# Altium schematic symbol library USB3.2_Hub_4Port.SCHLIB: 43 symbols
Pins are listed as number, name and electrical type; pins without a type are passive.

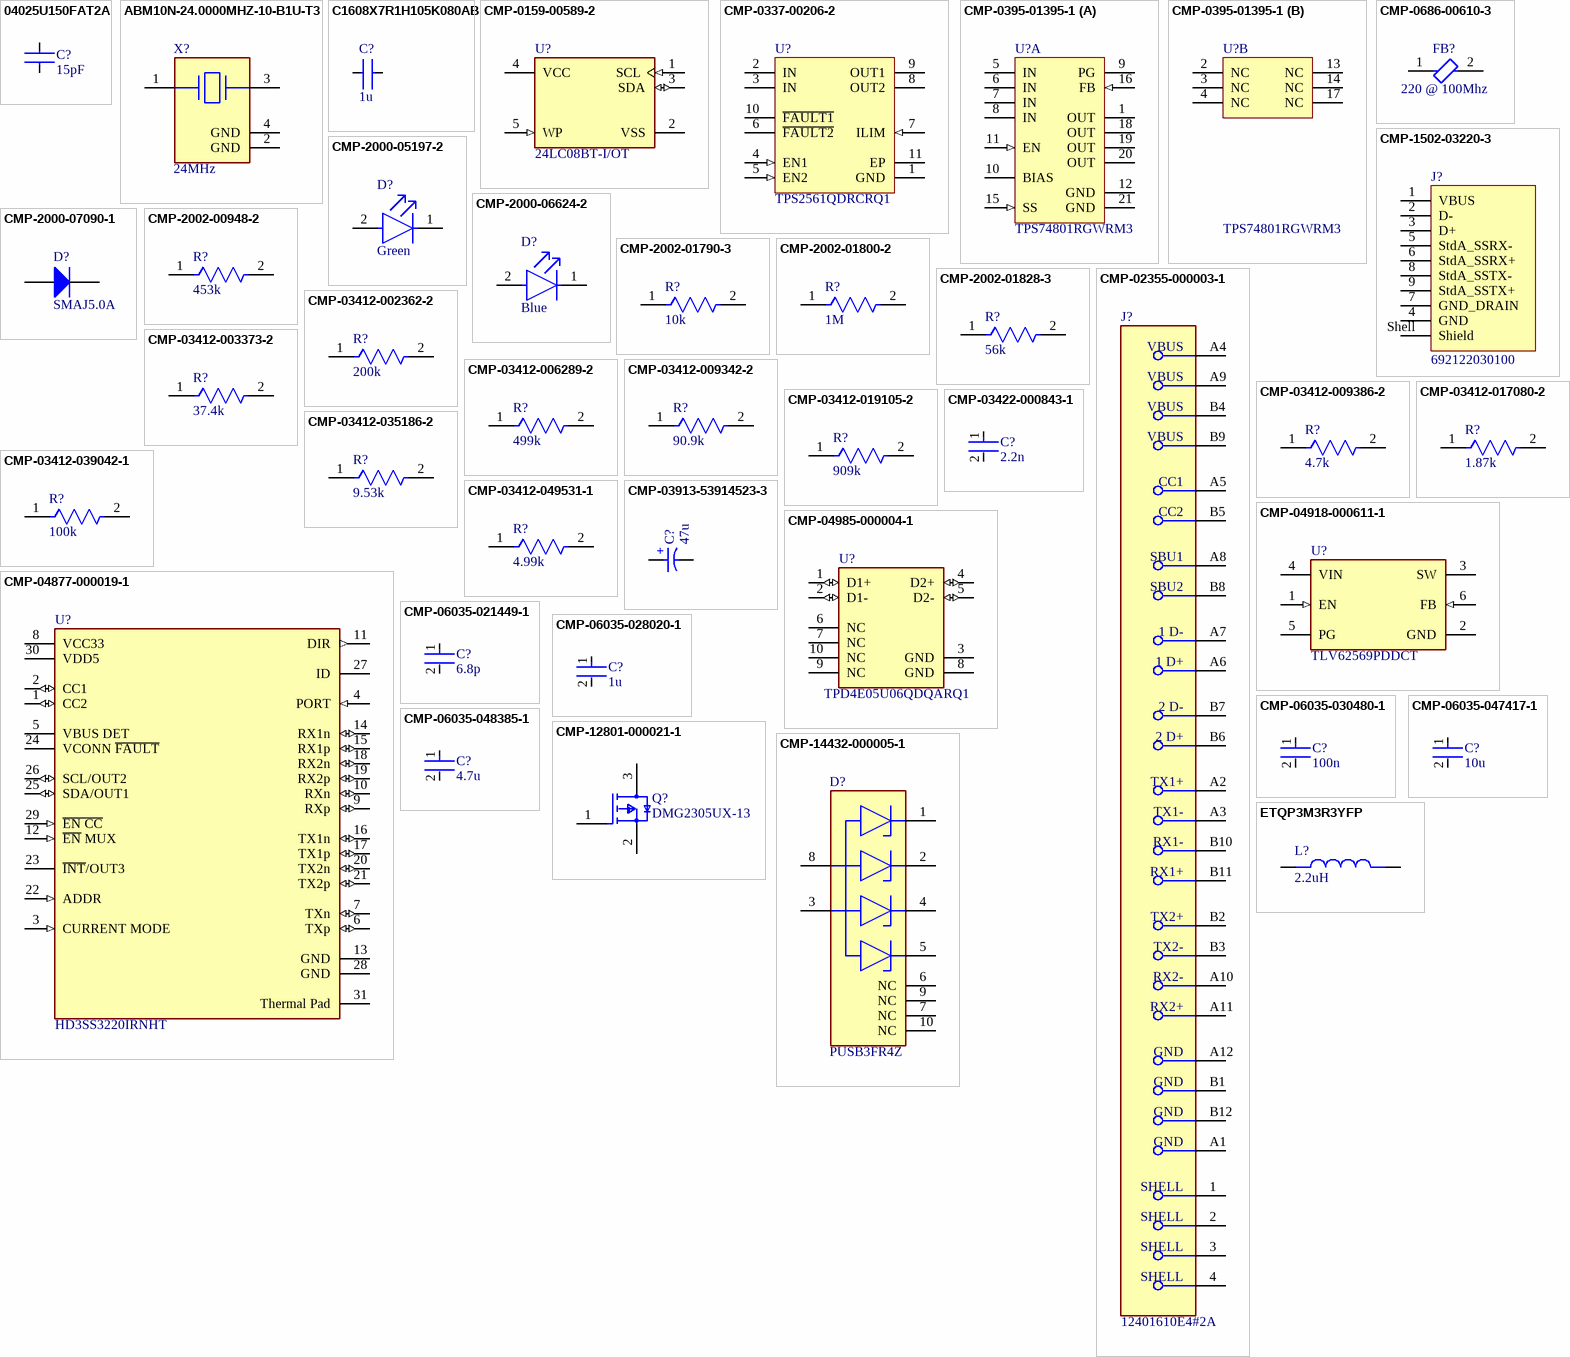
[diagram p0: symbols 04025U150FAT2A to ETQP3M3R3YFP]

## 04025U150FAT2A
designator C?, comment 15pF
AVX - 04025U150FAT2A - CAP, MLCC, C0G / NP0, 15PF, 50V, 0402; Manufacturer_Name: Kyocera AVX; Geometry.Height: 0.56mm; Mouser Part Number: 581-04025U150FAT2A; Mouser Price/Stock: https://www.mouser.com/Search/Refine.aspx?Keyword=581-04025U150FAT2A; Manufacturer_Part_Number: 04025U150FAT2A; Datasheet Link: https://componentsearchengine.com/Datasheets/1/04025U150FAT2A.pdf
footprint CAPC1005X56N
pins: 1, 2

## ABM10N-24.0000MHZ-10-B1U-T3
designator X?, comment 24MHz
24 MHz +/-10ppm Crystal 10pF 50 Ohms 4-SMD, No Lead , -20C ~ 70C; Manufacturer_Name: ABRACON; Manufacturer_Part_Number: ABM10N-24.0000MHZ-10-B1U-T3; Geometry.Height: 0.65mm; Mouser Part Number: *; Mouser Price/Stock: *; Datasheet Link: https://abracon.com/datasheets/ABM10N.pdf
footprint ABM10N240000MHZ10B1UT3
pins: 1, 2 GND, 3, 4 GND

## C1608X7R1H105K080AB
designator C?, comment 1u
The superior mechanical strength and reliability due to the monolithic structure.  Low ESR, ESL and excellent frequency characteristics allow for a circuit design that closely conforms to theoretical values.  Low self-heating and high ripple resistance due to low ESR.  No polarity; Manufacturer_Name: TDK; Manufacturer_Part_Number: C1608X7R1H105K080AB; Geometry.Height: 0.9mm; Mouser Part Number: 810-C1608X7R1H105K08; Mouser Price/Stock: https://www.mouser.co.uk/ProductDetail/TDK/C1608X7R1H105K080AB?qs=efUn273yAhdzCWVW9RXgig%3D%3D; Datasheet Link: https://media.digikey.com/pdf/Data%20Sheets/TDK%20PDFs/mlcc_commercial_general_Rev2018.pdf
footprint CAPC1608X90N
pins: 1, 2

## CMP-0159-00589-2
designator U?, comment 24LC08BT-I/OT
IC EEPROM 8K I2C 400KHZ SOT23-5; Manufacturer: Microchip; Automotive Grade: Grade 3; Import Ts: 1521846298; Interface: I2C,2-Wire; Memory Size: 8Kbits; Access Time: 900ns; Min Supply Voltage: 2.5V; Nominal Supply Current: 1-3mA; Ciiva Ids: 971476; Max Supply Voltage: 5.5V; ComponentLink2Description: Datasheet; Category: IC; Frequency: 400kHz; Digikey Description: IC EEPROM 8K I2C 400KHZ SOT23-5; Ambient Temperature Range High: +85°C; RoHS: TRUE; Ambient Temperature Range Low: -40°C; Temperature Range High: +85°C; Device Class L3: EEPROM; Device Class L2: Memory; Memory Type: EEPROM; Temperature: -40°C to +85°C; Ipc Land Pattern Name: SOT95P280X118-5; Release Date: 1302228452; Manufacturer Part Number: 24LC08BT-I/OT; Automotive: Yes; Mouser Description: EEPROM 1kx8 - 2.5V; Lead Free: Yes; Height: 1.45mm; Octopart: https://octopart.com/24lc08bt-i%2Fot-microchip-93286; Device Class L1: Integrated Circuits (ICs); Package: C04-091-OT; ComponentLink2URL: http://ww1.microchip.com/downloads/en/DeviceDoc/20001710L.pdf; Temperature Range Low: -40°C
footprint FP-C04-091-OT-MFG
footprint FP-C04-091-OT-IPC_C
footprint FP-C04-091-OT-IPC_B
footprint FP-C04-091-OT-IPC_A
pins: 1 SCL (in), 2 VSS (power), 3 SDA (io), 4 VCC (power), 5 WP (in)

## CMP-0337-00206-2
designator U?, comment TPS2561QDRCRQ1
Automotive Catalog Dual Channel Precision Adjustable Current-Limited Power Switch, 0.25 to 2.5 A Current Limit, -40 to 125 degC, 10-pin SON (DRC), Green (RoHS & no Sb/Br); Manufacturer: Texas Instruments; rDS(on) per FET(Typ)(mOhms): 45; Current Limit(A): 0.25 - 2.5; Current Limit Accuracy @ 1A: +/-7.5% (2590mA min / 3005mA max); Vin(Min)(V): 2.5; Number of Switches: 2; Vin(Max)(V): 6.5; Current Limit Topology: Constant-Current; Enable: Active High; DatasheetVersion: SLVSB51A; Eco-Plan: Green (RoHS & no Sb/Br); PartNumber: TPS2561QDRCRQ1; PackageReference: DRC0010A; Rating: Automotive; PackageDescription: 10-Pin Plastic Small Outline No-Lead, 3 x 3 x 1 mm Body, 0.5 mm Pitch, Exposed Pad; Continuous Current(Max)(A): 2.5; Mounting Technology: Surface Mount; PackageVersion: revL, Sep-2011; ComponentLink1Description: Datasheet; ComponentLink1URL: http://www.ti.com/general/docs/lit/getliterature.tsp?genericPartNumber=TPS2561-Q1&fileType=pdf
footprint DRC0010A_V (SON, 10-Leads, Body 3x3mm, Pitch 0.5mm, Thermal Pad 2.4x1.65mm, TI Recommended)
pins: 1 GND (power) "Ground connection; connect externally to PowerPAD", 2 IN (power) "Input voltage; connect a 0.1 uF or greater ceramic capacitor from IN to GND as close to the IC as possible.", 3 IN (power) "Input voltage; connect a 0.1 uF or greater ceramic capacitor from IN to GND as close to the IC as possible.", 4 EN1 (in) "Enable input, logic high turns on channel one power switch", 5 EN2 (in) "Enable input, logic high turns on channel two power switch", 6 ~{FAULT2} (hiz) "Active-low open-drain output, asserted during overcurrent or overtemperature condition on channel two", 7 ILIM (in) "External resistor used to set current-limit threshold; recommended 20 k ohm =< RILIM =<187 k ohm.", 8 OUT2 (power) "Power-switch output for channel two", 9 OUT1 (power) "Power-switch output for channel one", 10 ~{FAULT1} (hiz) "Active-low open-drain output, asserted during overcurrent or overtemperature condition on channel one.", 11 EP (power) "Internally connected to GND; used to heat-sink the part to the circuit board traces.Connect PowerPAD to GND pin externally."

## CMP-0395-01395-1
designator U?, comment TPS74801RGWRM3
Single Output LDO, 1.5 A, Adjustable 0.8 to 3.6 V Output, 0.8 to 5.5 V Input, with Programmable Soft Start, 20-pin VQFN (RGW), -40 to 125 degC, Green (RoHS & no Sb/Br); Manufacturer: Texas Instruments; PartNumber: TPS74801RGWTG4; Accuracy(%): 2; Vin(Min)(V): 0.8; SubFamily: Single Channel LDO; Iout(Max)(A): 1.5; Rating: Catalog; Power Good: TRUE; Vout Adj(Max)(V): 3.6; Vdo(Typ)(mV): 60; Vin(Max)(V): 5.5; Iq(Typ)(mA): 1; PackageReference: RGW20-3150X3150TP; ComponentLink2Description: Datasheet; PackageDescription: 20-Pin Plastic Quad Flat No-Pin, 5 x 5 mm Body, 0.65 mm Pitch, 3.15 x 3.15 mm Exposed Pad; ComponentLink1URL: http://www.ti.com/; DatasheetVersion: SBVS074J; Mounting Technology: Surface Mount; ComponentLink3Description: Package Specification; Vout Adj(Min)(V): 0.8; Code_JEDEC: MO-220; ComponentLink3URL: http://www.ti.com/litv/pdf/mpqf122b; Eco-Plan: Green (RoHS & no Sb/Br); ComponentLink4Description: URL Link1; ComponentLink4URL: Samples URL:http://www.ti.com/product/tps74801#samples; ComponentLink2URL: http://www.ti.com/general/docs/lit/getliterature.tsp?genericPartNumber=TPS74801&fileType=pdf; ComponentLink1Description: Manufacturer URL
footprint TI-RGW20-3150X3150TP_V (QFN, 20-Leads, Body 5x5mm, Pitch 0.65mm, Thermal Pad 3.15x3.15mm)
part A pins: 1 OUT (power) "Regulated output voltage. A small capacitor (total typical capacitance >= 2.2uF, ceramic) is needed from this pin to ground to assure stability.", 5 IN (power) "Input to the device.", 6 IN (power) "Input to the device.", 7 IN (power) "Input to the device.", 8 IN (power) "Input to the device.", 9 PG (hiz) "Power Good pin. An open-drain, active-high output that indicates the status of VOUT. When VOUT exceeds the PG trip threshold, the PG pin goes into a high-impedance state. When VOUT is below this threshold the pin is driven (See Datasheet)", 10 BIAS (power) "Bias input voltage for error amplifier, reference, and internal control circuits.", 11 EN (in) "Enable pin. Driving this pin high enables the regulator. Driving this pin low puts the regulator into shutdown mode. This pin must not be left unconnected.", 12 GND (power), 15 SS (in) "Soft-Start pin. A capacitor connected on this pin to ground sets the start-up time. If this pin is left unconnected, the regulator output soft-start ramp time is typically 200us.", 16 FB (in) "Feedback pin. The feedback connection to the center tap of an external resistor divider network that sets the output voltage. This pin must not be left floating.", 18 OUT (power) "Regulated output voltage. A small capacitor (total typical capacitance >= 2.2uF, ceramic) is needed from this pin to ground to assure stability.", 19 OUT (power) "Regulated output voltage. A small capacitor (total typical capacitance >= 2.2uF, ceramic) is needed from this pin to ground to assure stability.", 20 OUT (power) "Regulated output voltage. A small capacitor (total typical capacitance >= 2.2uF, ceramic) is needed from this pin to ground to assure stability.", 21 GND (power) "Should be soldered to the ground plane for increased thermal performance."
part B pins: 2 NC "No connection. This pin can be left floating or connected to GND to allow better thermal contact to the top-side plane.", 3 NC "No connection. This pin can be left floating or connected to GND to allow better thermal contact to the top-side plane.", 4 NC "No connection. This pin can be left floating or connected to GND to allow better thermal contact to the top-side plane.", 13 NC "No connection. This pin can be left floating or connected to GND to allow better thermal contact to the top-side plane.", 14 NC "No connection. This pin can be left floating or connected to GND to allow better thermal contact to the top-side plane.", 17 NC "No connection. This pin can be left floating or connected to GND to allow better thermal contact to the top-side plane."

## CMP-0686-00610-3
designator FB?, comment 220 @ 100Mhz
Chip Ferrite Bead, 0805, 220Ω @ 100MHz, 0.045Ω, 25%, 2A; Number of Circuits: 1; Shielding: Unshielded; DC Resistance (DCR): 45mR; Impedance: 220R; Radiation Hardening: No; Material: Ferrite; Frequency: 100MHz; Width: 1.25mm; DC Current: 2A; Max DC Current: 2A; Number of Lines: 1; Package Quantity: 1; Case Code (Metric): 2012; Current Rating: 2A; Case/Package: 0805; Current: 2A; Military Standard: Not; Core Material: Ferrite; Depth: 1.25mm; Contact Plating: Tin; DC Resistance-Max: 45mR; Max Operating Temperature: 125°C; Length: 2mm; Max Current Rating: 2A; REACH SVHC: No SVHC; Termination: SMD/SMT; Min Operating Temperature: -55°C; Series: BLM21P; Test Frequency: 100MHz; Tolerance: 25%; Number of Pins: 2; RoHS Compliant: Yes; Height: 0.85mm; Packaging: Tape and Reel; Lead Free: Lead Free; Case Code (Imperial): 0805
footprint FP-BLM21-0_2-t0_85-e0_5-IPC_B
footprint FP-BLM21-0_2-t0_85-e0_5-MFG
footprint FP-BLM21-0_2-t0_85-e0_5-IPC_A
footprint FP-BLM21-0_2-t0_85-e0_5-IPC_C
pins: 1, 2

## CMP-1502-03220-3
designator J?, comment 692122030100
Conn USB 3.0 Type A RCP 9 POS 1.25mm Solder RA SMD 9 Terminal 1 Port T/R; Current Rating: 250mA; Insulation Resistance: 100MΩ; Number of Contacts: 9; Number of Ports: 1; Voltage Rating (AC): 30V; USB Standard: USB 3.0; Gender: Receptacle; Contact Resistance: 50mΩ; RoHS: Compliant; Min Operating Temperature: -20°C; Packaging: Tape and Reel; Width: 16.66mm; Contact Plating: Gold; Color: Blue; Height: 8.01mm; Mount: Horizontal, Surface Mount, Through Hole; Voltage Rating: 30V; Contact Material: Gold, Nickel; Connector Type: USB; REACH SVHC: Unknown; Number of Pins: 9; Max Operating Temperature: 85°C; Operating Supply Voltage: 30V; Lead Free: Lead Free; Termination: SMD/SMT; Orientation: Horizontal; Flammability Rating: UL94 V-0; Features: Shielded; Length: 15.1mm
footprint 692122030100
pins: 1 VBUS, 2 D-, 3 D+, 4 GND, 5 StdA_SSRX-, 6 StdA_SSRX+, 7 GND_DRAIN, 8 StdA_SSTX-, 9 StdA_SSTX+, Shell Shield

## CMP-2000-05197-2
designator D?, comment Green
LED GREEN CLEAR CHIP SMD LTST-C193TGKT-5A; Test Current: 20mA; Power Rating: 75mW; Forward Voltage: 2V; Wavelength: 574nm; Number of LEDs: 1; Reverse Voltage: 5V; Dominant Wavelength: 571nm; Lens Style: Diffused; Luminous Intensity: 35mcd; Forward Current: 30mA; Viewing Angle: 130°; Lens Color: Colorless; Width: 0.8mm; Case Code (Imperial): 0603; Case Code (Metric): 1608; Number of Pins: 2; Radiation Hardening: No; Package Quantity: 1; Lead Free: Lead Free; Lens Transparency: Clear; Depth: 0.8mm; Power Dissipation: 75mW; Mount: Surface Mount; Max Operating Temperature: 85°C; Case/Package: 0603; Height: 0.8mm; Illumination Color: Green; Color: Green; Length: 1.6mm; Packaging: Tape and Reel; Number of Elements: 1; Min Operating Temperature: -55°C; Manufacturer Part Number: LTST-C193TGKT-5A
footprint FP-LTST-C190KGKT-MFG
pins: 1 C, 2 A

## CMP-2000-06624-2
designator D?, comment Blue
LED BLUE CLEAR CHIP SMD LTST-C193TBKT-5A; Number of Elements: 1; Forward Voltage: 2.8V; Forward Current: 20mA; Test Current: 5mA; Lens Color: Colorless; Dominant Wavelength: 475nm; Reverse Voltage: 5V; Viewing Angle: 130°; Lens Style: Diffused; Luminous Intensity: 15mcd; Power Dissipation: 76mW; Max Operating Temperature: 80°C; Length: 1.6mm; Number of LEDs: 1; Case/Package: 0603; Case Code (Metric): 1608; Number of Pins: 2; Radiation Hardening: No; Min Operating Temperature: -20°C; Width: 0.8mm; Packaging: Tape and Reel; Package Quantity: 1; Lead Free: Lead Free; Lens Transparency: Clear; Illumination Color: Blue; Color: Blue; RoHS Compliant: Yes; Mount: Surface Mount; Depth: 0.8mm; Case Code (Imperial): 0603; Height: 0.35mm
footprint FP-LTST-C193TBKT-5A-MFG
pins: 1 C, 2 A

## CMP-2000-07090-1
designator D?, comment SMAJ5.0A
SMAJ Transient Voltage Suppressor Diode Series, 3.5 V, -55 to 150 degC, 2-Pin SMA, RoHS, Tape and Reel; Manufacturer: Bourns; EDA / CAD Models: DownloadfromAcceleratedDesigns; Unidirectional Channels: 1; Voltage - Breakdown (Min): 6.4V; Voltage - Reverse Standoff (Typ): 5V; Voltage - Clamping (Max) @ Ipp: 9.2V; Other Names: SMAJ5.0ABDKR; Type: Zener; Catalog Drawings: SMAJSeriesFootprintSMAJ,SMBJSeries; Featured Product: SMAJ/SMBJ/SMCJ/SMLJDiscreteTVSDiodes; Power - Peak Pulse: 400W; Current - Peak Pulse (10/1000µs): 43.5A; Power Line Protection: No; Online Catalog: SMAJSeries; Supplier Device Package: SMA(DO-214AC); Operating Temperature: -55°C~150°C(TJ); Package Description: 2-Pin Surface Mount Device, Body 4.315 x 2.605 mm; Datasheet URL: https://datasheet.ciiva.com/25624/0900766b8112213b-25624680.pdf; Manufacturer URL: http://www.bourns.com/; Datasheet Version: 08/2012; Series: SMAJ; Family: TVS-Diodes; Bidirectional Channels: -; Applications: GeneralPurpose; Package Reference: SMA-2; Standard Package: 1; Package / Case: DO-214AC,SMA; Category: CircuitProtection; RoHS Information: SMAJSeriesMaterialDeclaration; Mounting Technology: SurfaceMount; Capacitance @ Frequency: -; Packaging: Digi-Reel®; Mounting Type: SurfaceMount
footprint BOUR-SMA-2_V (SMA, 2-Leads, Body 4.57x2.92mm)
pins: 1 A, 2 K

## CMP-2002-00948-2
designator R?, comment 453k
NexarPartId: 55421189; Power Rating: 100mW; Resistance: 453kΩ; Temperature Coefficient: 100ppm/°C; Tolerance: 1%; Voltage Rating (DC): 50V; Case Code (Metric): 1005; RoHS: Compliant; Length: 1mm; Case Code (Imperial): 0402; Depth: 500µm; Lead Free: Lead Free; Mount: Surface Mount; Termination: SMD/SMT; Schedule B: 8533210045, 8533210045; Max Operating Temperature: 155°C; Max Power Dissipation: 100mW; Width: 508µm; Case/Package: 0402; Military Standard: Not; Number of Terminations: 2; Contact Plating: Tin; Lifecycle Status: Production; Composition: Thick Film; Min Operating Temperature: -55°C; Height: 350µm; Packaging: Cut Tape; Voltage Rating: 50V; REACH SVHC: Yes
footprint FP-ERJ2RK-MFG (Res Thick Film 0402 18K Ohm 1% 0.1W(1/10W) +/-100ppm/C Molded SMD Automotive Punched T/R)
footprint FP-ERJ2RK-IPC_A (Res Thick Film 0402 18K Ohm 1% 0.1W(1/10W) +/-100ppm/C Molded SMD Automotive Punched T/R)
footprint FP-ERJ2RK-IPC_B (Res Thick Film 0402 18K Ohm 1% 0.1W(1/10W) +/-100ppm/C Molded SMD Automotive Punched T/R)
footprint FP-ERJ2RK-IPC_C (Res Thick Film 0402 18K Ohm 1% 0.1W(1/10W) +/-100ppm/C Molded SMD Automotive Punched T/R)
pins: 1, 2

## CMP-2002-01790-3
designator R?, comment 10k
RES 10kΩ ±1% 0.063W 0402; Power Rating: 62.5mW; Voltage Rating: 50V; Temperature Coefficient: 100ppm/°C; Resistance: 10kR; Max Power Dissipation: 63mW; Tolerance: 1%; Military Standard: Not; Construction: Rectangular; Termination: SMD/SMT; Max Operating Temperature: 155°C; Min Operating Temperature: -55°C; Height: 0.015inch; Lead Free: Lead Free; Width: 0.02inch; Case/Package: 0402; Resistor Type: Thick Film; Series: AC; Features: Moisture Resistant; RoHS Compliant: Yes; Number of Terminations: 2; Case Code (Metric): 1005; Length: 0.039inch; Depth: 0.5mm; Size Code: 0402; Packaging: Tape and Reel; Case Code (Imperial): 0402
footprint FP-AC0402-MFG
footprint FP-AC0402-IPC_B
footprint FP-AC0402-IPC_A
footprint FP-AC0402-IPC_C
pins: 1, 2

## CMP-2002-01800-2
designator R?, comment 1M
RES 1MΩ ±1% 0.063W 0402; Power Rating: 62.5mW; Max Power Dissipation: 63mW; Temperature Coefficient: 100ppm/°C; Resistance: 1MR; Voltage Rating: 50V; Packaging: Tape and Reel; Lead Free: Lead Free; Depth: 0.5mm; Series: AC; Length: 0.039inch; Resistor Type: Thick Film; Termination: SMD/SMT; Military Standard: Not; Case/Package: 0402; Min Operating Temperature: -55°C; Tolerance: 1%; Features: Moisture Resistant; Size Code: 0402; Case Code (Imperial): 0402; Number of Terminations: 2; Width: 0.5mm; Construction: Rectangular; Height: 0.015inch; RoHS Compliant: Yes; Case Code (Metric): 1005; Max Operating Temperature: 155°C
footprint FP-AC0402-IPC_A
footprint FP-AC0402-MFG
footprint FP-AC0402-IPC_B
footprint FP-AC0402-IPC_C
pins: 1, 2

## CMP-2002-01828-3
designator R?, comment 56k
RES 56kΩ ±1% 0.063W 0402; Max Power Dissipation: 63mW; Temperature Coefficient: 100ppm/°C; Resistance: 56kR; Lead Free: Lead Free; Max Operating Temperature: 155°C; Series: AC; Case Code (Imperial): 0402; RoHS Compliant: Yes; Case/Package: 0402; Power Rating: 63mW; Height: 0.015inch; Tolerance: 1%; Features: Moisture Resistant; Size Code: 0402; Min Operating Temperature: -55°C; Resistor Type: Thick Film; Case Code (Metric): 1005; Length: 0.039inch; Number of Terminations: 2; Width: 0.02inch; Packaging: Cut Tape
footprint FP-AC0402-IPC_A
footprint FP-AC0402-IPC_C
footprint FP-AC0402-MFG
footprint FP-AC0402-IPC_B
pins: 1, 2

## CMP-02355-000003-1
designator J?, comment 12401610E4#2A
CONN RCP USB3.1 TYPEC 24P SMD RA; Connector Type: USB; Number of Contacts: 24; Gender: Receptacle; Packaging: Cut Tape; Mount: Surface Mount; Number of Pins: 24
footprint FP-12401610E4#2A-MFG
pins: 1 SHELL (power), 2 SHELL (power), 3 SHELL (power), 4 SHELL (power), A1 GND (power), A2 TX1+, A3 TX1-, A4 VBUS (power), A5 CC1, A6 1 D+, A7 1 D-, A8 SBU1, A9 VBUS (power), A10 RX2-, A11 RX2+, A12 GND (power), B1 GND (power), B2 TX2+, B3 TX2-, B4 VBUS (power), B5 CC2, B6 2 D+, B7 2 D-, B8 SBU2, B9 VBUS (power), B10 RX1-, B11 RX1+, B12 GND (power)

## CMP-03412-002362-2
designator R?, comment 200k
RES 200kΩ ±1% 0.063W 0402; Temperature Coefficient: 100ppm/°C; Voltage Rating: 50V; Max Power Dissipation: 63mW; Power Rating: 62.5mW; Resistance: 200kR; RoHS Compliant: Yes; Series: AC; Height: 0.015inch; Termination: SMD/SMT; Case Code (Imperial): 0402; Min Operating Temperature: -55°C; Weight: 2.3E-05oz; Case Code (Metric): 1005; Case/Package: 0402; Max Operating Temperature: 155°C; Width: 0.5mm; Size Code: 0402; Features: Moisture Resistant; Number of Terminations: 2; Tolerance: 1%; Packaging: Tape and Reel; Lead Free: Lead Free; Resistor Type: Thick Film; Length: 0.039inch
footprint FP-AC0402-MFG
footprint FP-AC0402-IPC_C
footprint FP-AC0402-IPC_A
footprint FP-AC0402-IPC_B
pins: 1, 2

## CMP-03412-003373-2
designator R?, comment 37.4k
RES 37.4kΩ ±1% 0.063W 0402; Temperature Coefficient: 100ppm/°C; Voltage Rating: 50V; Resistance: 37.4kR; Max Power Dissipation: 63mW; Power Rating: 62.5mW; Width: 0.5mm; Tolerance: 1%; Length: 0.039inch; Number of Terminations: 2; Features: Moisture Resistant; Min Operating Temperature: -55°C; Case Code (Metric): 1005; Series: AC; RoHS Compliant: Yes; Resistor Type: Thick Film; Termination: SMD/SMT; Case/Package: 0402; Packaging: Tape and Reel; Case Code (Imperial): 0402; Height: 0.015inch; Max Operating Temperature: 155°C
footprint FP-AC0402-IPC_B
footprint FP-AC0402-IPC_C
footprint FP-AC0402-IPC_A
footprint FP-AC0402-MFG
pins: 1, 2

## CMP-03412-006289-2
designator R?, comment 499k
RES 499kΩ ±1% 0.063W 0402; Resistance: 499kR; Max Power Dissipation: 63mW; Temperature Coefficient: 100ppm/°C; Case/Package: 0402; Tolerance: 1%; Series: AC; Number of Terminations: 2; Features: Moisture Resistant; Case Code (Imperial): 0402; Packaging: Tape and Reel; Resistor Type: Thick Film; Min Operating Temperature: -55°C; RoHS Compliant: Yes; Ratings: AEC-Q200; Width: 0.02inch; Length: 0.039inch; Height: 0.015inch; Max Operating Temperature: 155°C; Case Code (Metric): 1005
footprint FP-AC0402-IPC_C
footprint FP-AC0402-IPC_B
footprint FP-AC0402-IPC_A
footprint FP-AC0402-MFG
pins: 1, 2

## CMP-03412-009342-2
designator R?, comment 90.9k
RES 90.9kΩ ±1% 0.063W 0402; Voltage Rating: 50V; Resistance: 90.9kR; Temperature Coefficient: 100ppm/°C; Max Power Dissipation: 63mW; Power Rating: 62.5mW; Resistor Type: Thick Film; Length: 0.039inch; RoHS Compliant: Yes; Features: Moisture Resistant; Height: 0.015inch; Case Code (Imperial): 0402; Tolerance: 1%; Min Operating Temperature: -55°C; Case/Package: 0402; Width: 0.5mm; Series: AC; Termination: SMD/SMT; Number of Terminations: 2; Max Operating Temperature: 155°C; Case Code (Metric): 1005; Packaging: Tape and Reel
footprint FP-AC0402-MFG
footprint FP-AC0402-IPC_B
footprint FP-AC0402-IPC_A
footprint FP-AC0402-IPC_C
pins: 1, 2

## CMP-03412-009386-2
designator R?, comment 4.7k
RES 4.7kΩ ±1% 0.063W 0402
footprint FP-AC0402-MFG
footprint FP-AC0402-IPC_B
footprint FP-AC0402-IPC_A
footprint FP-AC0402-IPC_C
pins: 1, 2

## CMP-03412-017080-2
designator R?, comment 1.87k
RES 1.87kΩ ±1% 0.063W 0402; Temperature Coefficient: 100ppm/°C; Resistance: 1.87kR; Max Power Dissipation: 63mW; Features: Moisture Resistant; Width: 0.02inch; Packaging: Tape and Reel; Series: AC; Height: 0.015inch; Min Operating Temperature: -55°C; Number of Terminations: 2; Tolerance: 1%; Length: 0.039inch; Max Operating Temperature: 155°C; Case/Package: 0402; RoHS Compliant: Yes; Resistor Type: Thick Film
footprint FP-AC0402-IPC_A
footprint FP-AC0402-IPC_C
footprint FP-AC0402-IPC_B
footprint FP-AC0402-MFG
pins: 1, 2

## CMP-03412-019105-2
designator R?, comment 909k
RES 909kΩ ±1% 0.063W 0402; Power Rating: 62.5mW; Voltage Rating: 50V; Resistance: 909kR; Temperature Coefficient: 100ppm/°C; Max Power Dissipation: 63mW; Number of Terminations: 2; Packaging: Tape and Reel; Height: 0.015inch; Max Operating Temperature: 155°C; Series: AC; Resistor Type: Thick Film; Features: Moisture Resistant; Width: 0.5mm; RoHS Compliant: Yes; Length: 0.039inch; Case/Package: 0402; Min Operating Temperature: -55°C; Tolerance: 1%; Termination: SMD/SMT; Case Code (Imperial): 0402; Case Code (Metric): 1005
footprint FP-AC0402-IPC_A
footprint FP-AC0402-IPC_C
footprint FP-AC0402-MFG
footprint FP-AC0402-IPC_B
pins: 1, 2

## CMP-03412-035186-2
designator R?, comment 9.53k
RES 9.53kΩ ±1% 0.063W 0402; Temperature Coefficient: 100ppm/°C; Max Power Dissipation: 63mW; Resistance: 9.53kR; Number of Terminations: 2; Case/Package: 0402; Width: 0.02inch; Length: 0.039inch; Min Operating Temperature: -55°C; RoHS Compliant: Yes; Max Operating Temperature: 155°C; Series: AC; Resistor Type: Thick Film; Height: 0.015inch; Tolerance: 1%; Features: Moisture Resistant; Packaging: Tape and Reel
footprint FP-AC0402-IPC_C
footprint FP-AC0402-IPC_A
footprint FP-AC0402-MFG
footprint FP-AC0402-IPC_B
pins: 1, 2

## CMP-03412-039042-1
designator R?, comment 100k
RES 100kΩ ±1% 0.125W 0402
footprint FP-AC0402-MFG
footprint FP-AC0402-IPC_A
footprint FP-AC0402-IPC_B
footprint FP-AC0402-IPC_C
pins: 1, 2

## CMP-03412-049531-1
designator R?, comment 4.99k
RES 4.99kΩ ±1% 0.125W 0402; RoHS Compliant: Yes
footprint FP-AC0402-IPC_A
footprint FP-AC0402-MFG
footprint FP-AC0402-IPC_B
footprint FP-AC0402-IPC_C
pins: 1, 2

## CMP-03422-000843-1
designator C?, comment 2.2n
CAP CER 2200PF 50V X7R 0402; Manufacturer: Yageo; Manufacturer Part Number: AC0402KRX7R9BB222; Value: 2.2 nF; Material: Ceramic; Temperature Coefficient: ±15%; Automotive Grade: Grade 1; Tolerance: 0.1; Temperature: -55°C to +125°C; Automotive: Yes; Device Class L1: Passive Components; Device Class L2: Capacitors; Package: AC0402-0.5; RoHS: TRUE; Temperature Range Low: -55°C; ComponentLink2Description: Datasheet; Category: Cap; Mouser Description: Cap Ceramic 0.0022uF 50V X7R 10% Pad SMD 0402 125C Automotive T/R; Lead Free: Yes; Digikey Description: CAP CER 2200PF 50V X7R 0402; Capacitance: 2.2 nF; Temperature Range High: +125°C; Footprint Url: http://www.yageo.com/exep/pages/download/literatures/UPY-C_GEN_24.pdf; Height: 0.55mm; Temperature Characteristic: X7R; ComponentLink2URL: http://www.yageo.com/documents/recent/UPY-AC_NP0X7R_16V-to-630V_12.pdf; Device Class L3: Ceramic Capacitors; Octopart: https://octopart.com/ac0402krx7r9bb222-yageo-78873070; Ipc Land Pattern Name: CAPC10050X50; Voltage Rating: 50 V
footprint FP-AC0402-0_5-MFG
footprint FP-AC0402-0_5-IPC_C
footprint FP-AC0402-0_5-IPC_B
footprint FP-AC0402-0_5-IPC_A
pins: 1, 2

## CMP-03913-53914523-3
designator C?, comment 47u
Alum. Electrolytic Cap 47UF 35V 5.5MMV-CHIP Wcap-asll, Lifetime 2000H +105OC; Insulation Resistance: 2.12766MΩ; Capacitance: 47µF; Life (Hours): 2000hours; Material: Aluminium; ESR (Equivalent Series Resistance): 416.365mΩ; Leakage Current: 16.45µA; Ripple Current (AC): 240mA; Tolerance: 20%; Impedance: 440mΩ; Min Operating Temperature: -55°C; Length: 5.5mm; Voltage Rating (DC): 35V; REACH SVHC: Unknown; Height: 5.5mm; Max Operating Temperature: 105°C; Diameter: 6.3mm; Voltage Rating: 35V; Case/Package: Radial; Packaging: Cut Tape; Ripple Current: 240mA
footprint WCAP-ASLL_D6.3H5.5 (WCAP-ASLL Aluminum Electrolytic Capacitors)
pins: 1 P, 2 N
text: +

## CMP-04877-000019-1
designator U?, comment HD3SS3220IRNHT
USB TYPE-C DRP PORT CONTROLLER W; Max Supply Voltage: 5.5V; Min Supply Voltage: 3V; Number of Ports: 1; Data Rate: 10Gbps; USB Standard: USB 3.1; Mount: Surface Mount; Max Operating Temperature: 70°C; Lead Free: Lead Free; RoHS Compliant: Yes; Packaging: Tape and Reel; Number of Pins: 30; Min Operating Temperature: 0°C; REACH SVHC: No SVHC
footprint FP-RNH0030A-MFG
footprint FP-RNH0030A-IPC_C
footprint FP-RNH0030A-IPC_B
footprint FP-RNH0030A-IPC_A
pins: 1 CC2 (io), 2 CC1 (io), 3 CURRENT MODE (in), 4 PORT (in), 5 VBUS DET (power), 6 TXp (io), 7 TXn (io), 8 VCC33 (power), 9 RXp (io), 10 RXn (io), 11 DIR (out), 12 ~{EN} MUX (in), 13 GND (power), 14 RX1n (io), 15 RX1p (io), 16 TX1n (io), 17 TX1p (io), 18 RX2n (io), 19 RX2p (io), 20 TX2n (io), 21 TX2p (io), 22 ADDR (in), 23 ~{INT}/OUT3 (oc), 24 VCONN ~{FAULT} (oc), 25 SDA/OUT1 (io), 26 SCL/OUT2 (io), 27 ID (oc), 28 GND (power), 29 ~{EN CC} (in), 30 VDD5 (power), 31 Thermal Pad (power)

## CMP-04918-000611-1
designator U?, comment TLV62569PDDCT
IC REG BUCK ADJ 2A TSOT23-6; Max Input Voltage: 5.5V; Min Output Voltage: 600mV; Output Configuration: Positive; Output Type: Adjustable; Synchronous Rectifier: Yes; Switching Frequency: 1.5MHz; Min Input Voltage: 2.5V; Case/Package: SOT-23-6; Max Output Voltage: 5.5V; Mount: Surface Mount; Max Operating Temperature: 125°C; Packaging: Cut Tape; Min Operating Temperature: -40°C; Output Current: 2A; RoHS Compliant: Yes
footprint FP-DDC0006A-IPC_C
footprint FP-DDC0006A-IPC_B
footprint FP-DDC0006A-MFG
footprint FP-DDC0006A-IPC_A
pins: 1 EN (in), 2 GND (power), 3 SW (power), 4 VIN (power), 5 PG (oc), 6 FB (in)

## CMP-04985-000004-1
designator U?, comment TPD4E05U06QDQARQ1
TVS DIODE 5.5V 14V 10USON; Manufacturer: Texas Instruments; Direction: Unidirectional; Standoff Height: 0mm; Capacitance: 0.5pF; Number Of Channels: 4; Breakdown Voltage: 6.4V; Peak Pulse Power: 2.5W; Automotive Grade: Grade 1; Value: 0.5pF; Interface: USB,Ethernet,LVDS,Other; Peak Pulse Current: 2.5A; Operating Supply Voltage: 5.5V; Reverse Standoff Voltage: 5.5V; Package: DQA0010A; Temperature Range Low: -40°C; Temperature Range High: +125°C; Ambient Temperature Range Low: -40°C; Device Class L1: Circuit Protection; Clamping Voltage: 14V; Manufacturer Part Number: TPD4E05U06QDQARQ1; Device Class L2: ESD and Circuit Protection ICs; Octopart: https://octopart.com/tpd4e05u06qdqarq1-texas+instruments-48523459; Device Class L3: unset; Height: 0.55mm; Automotive: Yes; ComponentLink2Description: Datasheet; RoHS: TRUE; Ambient Temperature Range High: +125°C; Category: IC; Mouser Description: Automotive 4-Channel ESD Protection Solution for SuperSpeed (up to 5 Gbps) Interface 10-USON -40 to 125; Temperature: -40°C to +125°C; ComponentLink2URL: http://www.ti.com/lit/ds/symlink/tpd4e05u06-q1.pdf; Digikey Description: TVS DIODE 5.5V 14V 10USON; Lead Free: Yes
footprint FP-DQA0010A-MFG
pins: 1 D1+ (io), 2 D1- (io), 3 GND (power), 4 D2+ (io), 5 D2- (io), 6 NC, 7 NC, 8 GND (power), 9 NC, 10 NC

## CMP-06035-021449-1
designator C?, comment 6.8p
Ceramic Capacitor for Automotive 6.8pF ±0.1pF 50VDC C0G 0402 Paper T/R
footprint FP-GCM155-0_05-IPC_B
footprint FP-GCM155-0_05-IPC_C
footprint FP-GCM155-0_05-IPC_A
footprint FP-GCM155-0_05-MFG
pins: 1, 2

## CMP-06035-028020-1
designator C?, comment 1u
Chip Multilayer Ceramic Capacitors for General Purpose, 0402, 1.0uF, X7R, 15%, 10%, 10V
footprint FP-GRM155-0_1-IPC_C
footprint FP-GRM155-0_1-MFG
footprint FP-GRM155-0_1-IPC_B
footprint FP-GRM155-0_1-IPC_A
pins: 1, 2

## CMP-06035-030480-1
designator C?, comment 100n
Multi-Layer Ceramic Capacitor 100nF 50V X7R ±10% 0402 Paper T/R
footprint FP-GRT155-0_05-IPC_C
footprint FP-GRT155-0_05-MFG
footprint FP-GRT155-0_05-IPC_A
footprint FP-GRT155-0_05-IPC_B
pins: 1, 2

## CMP-06035-047417-1
designator C?, comment 10u
Chip Multilayer Ceramic Capacitors for General Purpose, 0805, 10uF, X7R, 15%, 10%, 25V
footprint FP-GRM21B-0_2-e0_2_0_7-IPC_B
footprint FP-GRM21B-0_2-e0_2_0_7-IPC_C
footprint FP-GRM21B-0_2-e0_2_0_7-IPC_A
footprint FP-GRM21B-0_2-e0_2_0_7-MFG
pins: 1, 2

## CMP-06035-048385-1
designator C?, comment 4.7u
Chip Multilayer Ceramic Capacitors for General Purpose, 0805, 4.7uF, X7R, 15%, 10%, 35V
footprint FP-GRM21B-0_2-e0_2_0_7-IPC_A
footprint FP-GRM21B-0_2-e0_2_0_7-MFG
footprint FP-GRM21B-0_2-e0_2_0_7-IPC_B
footprint FP-GRM21B-0_2-e0_2_0_7-IPC_C
pins: 1, 2

## CMP-12801-000021-1
designator Q?, comment DMG2305UX-13
MOSFET P-CH 20V 4.2A SOT23; Manufacturer: Diodes Inc.; Input Capacitace At Vds: 808pF @ -15V; Rthja Max: 90°C/W; Drain To Source Voltage: -20V; Standoff Height: 0.013mm; Number Of P Channels: 1; Gate To Source Voltage: 8V; Turn On Delay Time: 10.8ns; Pulse Drain Current: -15A; Threshold Vgs Max: -0.9V; Max Junction Temp: +150°C; Depletion Mode: False; Drain To Source Resistance: 40mΩ; Threshold Vgs Min: -0.5V; Continuous Drain Current: -4.2A; Turn Off Delay Time: 79.3ns; Gate Charge At Vgs: 10.2nC @ -4.5V; Power Dissipation: 1.4W; Digikey Description: MOSFET P-CH 20V 4.2A SOT23; Temperature Range High: +150°C; Height: 1.1mm; Package: SOT23; Footprint Url: https://www.diodes.com/assets/Package-Files/SOT23.pdf; Device Class L3: MOSFETs; RoHS: TRUE; Temperature: -55°C to +150°C; Mouser Description: MOSFET P-Ch ENH FET -20V 52mOhm -5.0V; Temperature Range Low: -55°C; ComponentLink2Description: Datasheet; Manufacturer Part Number: DMG2305UX-13; Octopart: https://octopart.com/dmg2305ux-13-diodes+inc.-29925594; Ipc Land Pattern Name: SOT92P240X102-3; Device Class L2: Transistors; Automotive: No; Number Of Channels: 1; Drain To Source Breakdown Voltage: -20V; Lead Free: Yes; Device Class L1: Discrete Semiconductors; Category: Trans; ComponentLink2URL: https://www.diodes.com/assets/Datasheets/DMG2305UX.pdf
footprint FP-SOT23-MFG
footprint FP-SOT23-IPC_C
footprint FP-SOT23-IPC_B
footprint FP-SOT23-IPC_A
pins: 1 G, 2 S, 3 D

## CMP-14432-000005-1
designator D?, comment PUSB3FR4Z
TVS DIODE 3.3VWM 3VC DFN2510A-10; RoHS Compliant: Yes
footprint FP-SOT1176-1-MFG
pins: 1 CH1, 2 CH2, 3 GND (power), 4 CH3, 5 CH4, 6 NC, 7 NC, 8 GND (power), 9 NC, 10 NC

## ETQP3M3R3YFP
designator L?, comment 2.2uH
ETQPSeries SMD Wire Wound Choke w/ Metal Core,3.3 uH +/-20% Wire-Wound 8.6A Idc | Panasonic Electronic Components ETQP3M3R3YFP; SnapEDA_Link: https://www.snapeda.com/parts/ETQP3M3R3YFP/Panasonic/view-part/?ref=snap; Package: Package; Value: *; MF: Panasonic; MP: ETQP3M3R3YFP; Check_prices: https://www.snapeda.com/parts/ETQP3M3R3YFP/Panasonic/view-part/?ref=eda
footprint IND_ETQP3M3R3YFP
pins: 1, 2

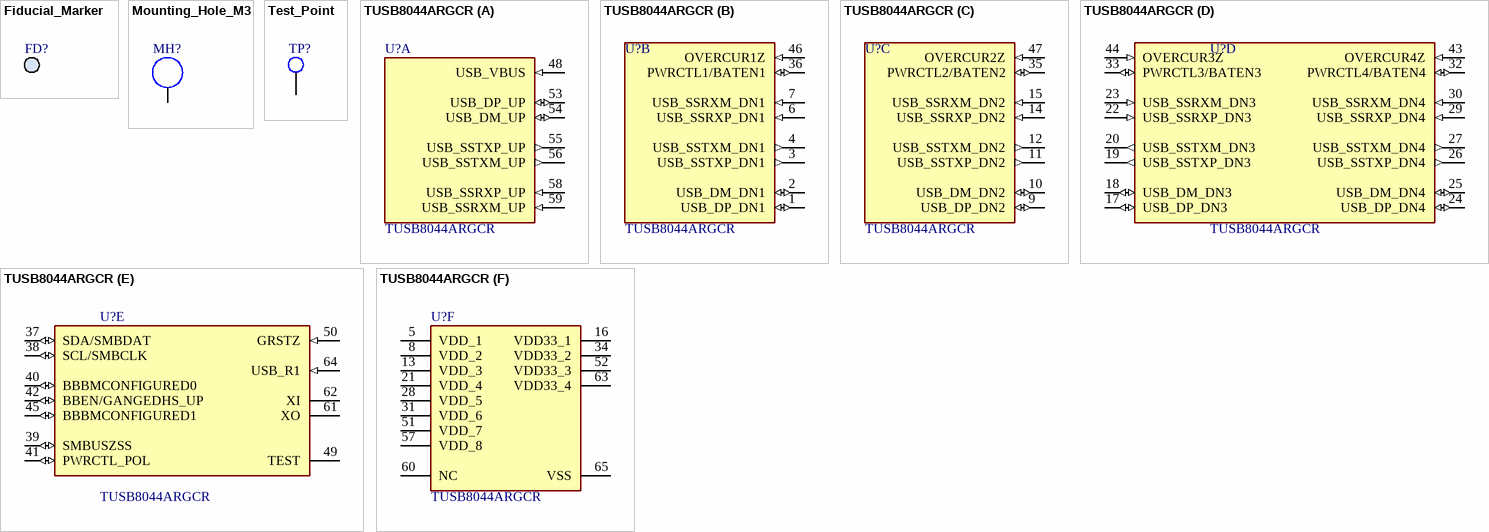
[diagram p1: symbols Fiducial_Marker to TUSB8044ARGCR]

## Fiducial_Marker
designator FD?  (value not drawn)  (no BOM)
footprint Fiducial_Standard

## Mounting_Hole_M3
designator MH?  (value not drawn)  (no BOM)
footprint MH_M3_Stitched
pins: 1

## Test_Point
designator TP?  (value not drawn)  (no BOM)
footprint Test_Point
pins: 1

## TUSB8044ARGCR
designator U?
Four-port USB 3.2 x1 Gen1 hub with USB billboard; Manufacturer_Name: Texas Instruments; Geometry.Height: 1mm; Mouser Part Number: 595-TUSB8044ARGCR; Mouser Price/Stock: https://www.mouser.co.uk/ProductDetail/Texas-Instruments/TUSB8044ARGCR?qs=9r4v7xj2LnlTBCFutY1Bfg%3D%3D; Manufacturer_Part_Number: TUSB8044ARGCR; Datasheet Link: http://www.ti.com/lit/gpn/TUSB8044A
footprint QFN50P900X900X100-65N-D
part A pins: 48 USB_VBUS (in), 53 USB_DP_UP (io), 54 USB_DM_UP (io), 55 USB_SSTXP_UP (out), 56 USB_SSTXM_UP (out), 58 USB_SSRXP_UP (in), 59 USB_SSRXM_UP (in)
part B pins: 1 USB_DP_DN1 (io), 2 USB_DM_DN1 (io), 3 USB_SSTXP_DN1 (out), 4 USB_SSTXM_DN1 (out), 6 USB_SSRXP_DN1 (in), 7 USB_SSRXM_DN1 (in), 36 PWRCTL1/BATEN1 (io), 46 OVERCUR1Z (in)
part C pins: 9 USB_DP_DN2 (io), 10 USB_DM_DN2 (io), 11 USB_SSTXP_DN2 (out), 12 USB_SSTXM_DN2 (out), 14 USB_SSRXP_DN2 (in), 15 USB_SSRXM_DN2 (in), 35 PWRCTL2/BATEN2 (io), 47 OVERCUR2Z (in)
part D pins: 17 USB_DP_DN3 (io), 18 USB_DM_DN3 (io), 19 USB_SSTXP_DN3 (out), 20 USB_SSTXM_DN3 (out), 22 USB_SSRXP_DN3 (in), 23 USB_SSRXM_DN3 (in), 24 USB_DP_DN4 (io), 25 USB_DM_DN4 (io), 26 USB_SSTXP_DN4 (out), 27 USB_SSTXM_DN4 (out), 29 USB_SSRXP_DN4 (in), 30 USB_SSRXM_DN4 (in), 32 PWRCTL4/BATEN4 (io), 33 PWRCTL3/BATEN3 (io), 43 OVERCUR4Z (in), 44 OVERCUR3Z (in)
part E pins: 37 SDA/SMBDAT (io), 38 SCL/SMBCLK (io), 39 SMBUSZSS (io), 40 BBBMCONFIGURED0 (io), 41 PWRCTL_POL (io), 42 BBEN/GANGEDHS_UP (io), 45 BBBMCONFIGURED1 (io), 49 TEST, 50 GRSTZ (in), 61 XO, 62 XI, 64 USB_R1 (in)
part F pins: 5 VDD_1 (power), 8 VDD_2 (power), 13 VDD_3 (power), 16 VDD33_1 (power), 21 VDD_4 (power), 28 VDD_5 (power), 31 VDD_6 (power), 34 VDD33_2 (power), 51 VDD_7 (power), 52 VDD33_3 (power), 57 VDD_8 (power), 60 NC, 63 VDD33_4 (power), 65 VSS (power)